# Altium footprint library KLS5-CR2032-03.PcbLib: 1 footprints
Each footprint in its own frame and in the unit in brackets; x right, y up, seen from the top. Pads: shape width x height; smd on the part's side, far side on the other; paste and mask are expansions set on the pad; w line width, h text height; cw(c..) or ccw(c..) is an arc to the next point about the centre after c.
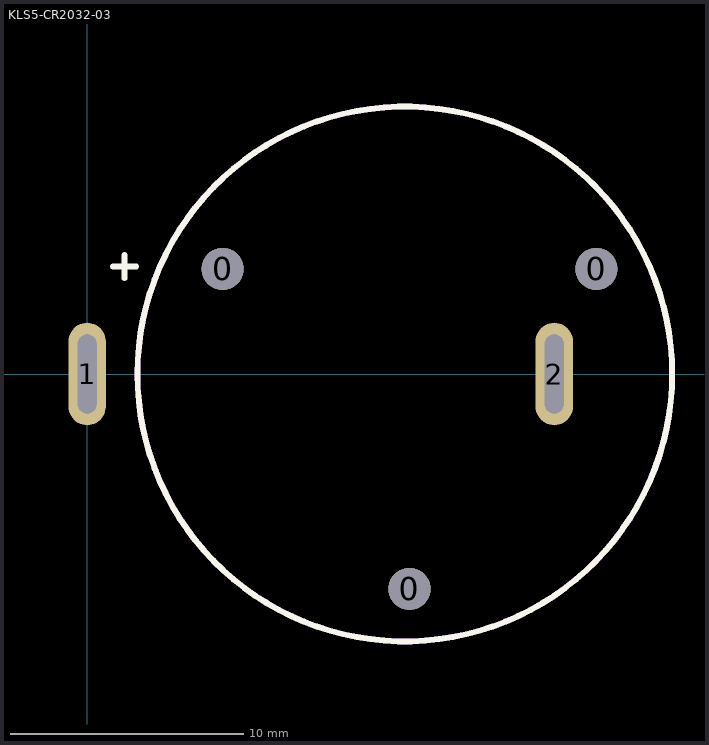
[diagram p0: the footprint, top view; thin cyan lines are the x and y axes]

## KLS5-CR2032-03 [mm]
pads (5):
  round 1.8 hole 1.8 unplated: 0(5.8,4.5) 0(13.8,-9.2) 0(21.8,4.5)
  oval 1.6x4.4 hole 0.8 slot 3.4 at 90 deg: 1(0,0) 2(20,0)
Top Overlay:
  circle w0.254: c13.6,0 r11.45
  lines w0.254: 1.1,4.6 2.1,4.6 ; 1.6,4.1 1.6,5.1
TopAssy:
  circle w0.254: c13.6,0 r11.45
3D body "KLS5-CR2032.stp": height 9.91, standoff -3.3, extent -2.3,-11.45 25.2,11.45